# EAGLE library part JST4-POS2MM-R/A-SMT (library logic-supply)
JST 4-pos 2.0mm SMT (S 4B-PH-SM3) - MATE:= PHR-4
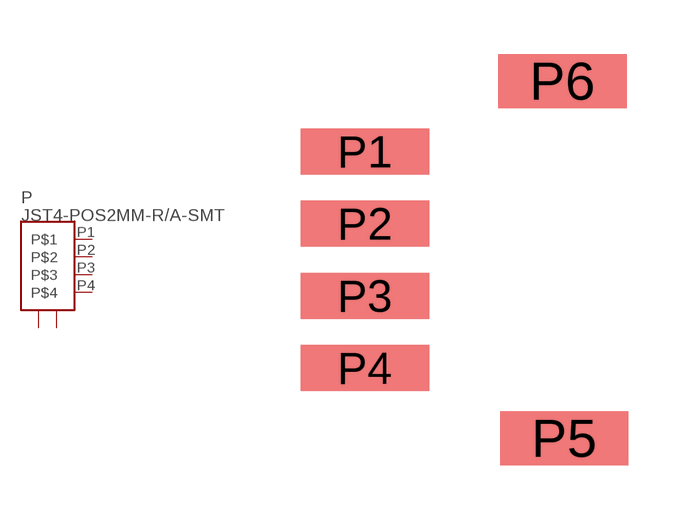
[diagram p51: symbol with the pads of HEADER-JST-4-SMD-R/A; footprint HEADER-JST-4-SMD-R/A]

Designator prefix P

## JST4-POS2MM-R/A-SMT  [HEADER-JST-4-SMD-R/A]
P1  P$1
P2  P$2
P3  P$3
P4  P$4
P5  P$5
P6  P$6

## Footprint HEADER-JST-4-SMD-R/A (pad centres in mm)
JST S 4B-PH-SM3 SMD 4-POS 2.0mm
smd 3.556 x 1.27: P1 -2.75,3; P2 -2.75,1; P3 -2.75,-1; P4 -2.75,-3
smd 3.556 x 1.5: P5 2.77,-4.95; P6 2.72,4.95